# EAGLE library part HEADER_POS8_? (library con-molex-micro-fit-3_0)
Molex - Micro-Fit 3.0 Series connector, 3.00mm (0.118") pitch header, 8 positions.
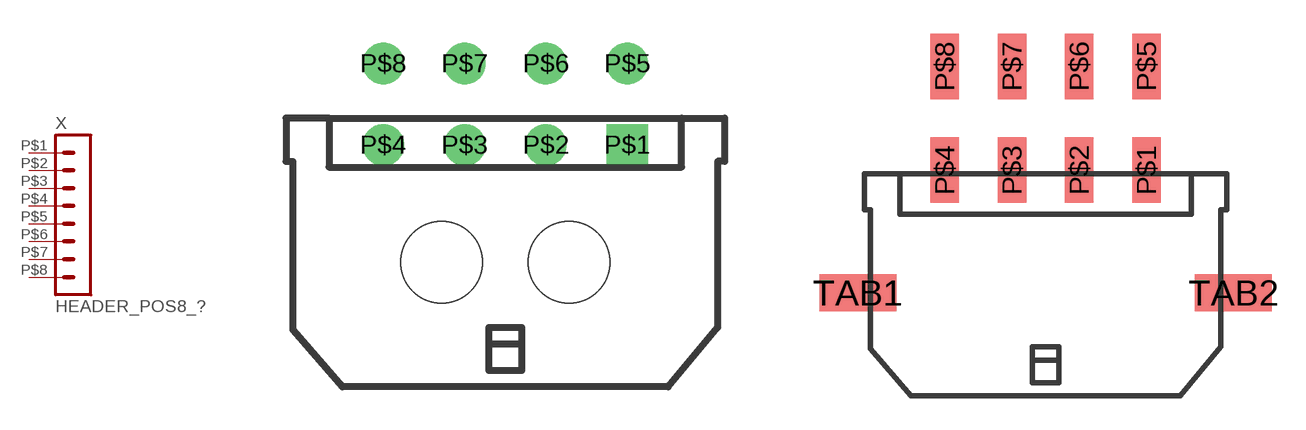
[diagram p2: symbol with the pads of 43045-0800; footprints 43045-0800, 43045-0809]

Designator prefix X

## HEADER_POS8_43045-0800  [43045-0800]
P$1  1  pas
P$2  2  pas
P$3  3  pas
P$4  4  pas
P$5  5  pas
P$6  6  pas
P$7  7  pas
P$8  8  pas

## HEADER_POS8_43045-0809  [43045-0809]
Pads as for 43045-0800

## HEADER_POS8_43045-0806  [43045-0806]
Pads as for 43045-0800

## HEADER_POS8_43045-0812  [43045-0812]
Pads as for 43045-0800

## HEADER_POS8_43045-0815  [43045-0815]
Pads as for 43045-0800

## HEADER_POS8_43045-0818  [43045-0818]
Pads as for 43045-0800

## HEADER_POS8_44914-0801  [44914-0801]
Pads as for 43045-0800

## HEADER_POS8_43650-0815  [43650-0815]
Pads as for 43045-0800

## HEADER_POS8_43650-0821  [43650-0821]
Pads as for 43045-0800

## HEADER_POS8_43650-0824  [43650-0824]
Pads as for 43045-0800

## HEADER_POS8_43650-0800  [43650-0800]
Pads as for 43045-0800

## HEADER_POS8_43650-0809  [43650-0809]
P$1  2  pas
P$2  1  pas
P$3  3  pas
P$4  4  pas
P$5  5  pas
P$6  6  pas
P$7  7  pas
P$8  8  pas

## HEADER_POS8_43650-0812  [43650-0812]
Pads as for 43045-0800

## HEADER_POS8_44769-0801  [44769-0801]
Pads as for 43045-0800

## HEADER_POS8_44432-0801  [44432-0801]
Pads as for 43045-0800

## HEADER_POS8_44428-0801  [44428-0801]
Pads as for 43045-0800

## HEADER_POS8_44764-0801  [44764-0801]
Pads as for 43045-0800

## Footprint 43045-0800 (pad centres in mm)
Molex Micro-Fit 3.0 - Header Shrouded, Thru hole, Right Angle; P/N: SD-43045-0800, SD-43045-0801, SD-43045-0802 http://www.molex.com/pdm_docs/sd/430450200_sd.pdf
drill 1.02 square: P$1 4.5,4.32
drill 1.02: P$2 1.5,4.32; P$3 -1.5,4.32; P$4 -4.5,4.32; P$5 4.5,7.32; P$6 1.5,7.32; P$7 -1.5,7.32; P$8 -4.5,7.32
hole 3 at 2.35,0
hole 3 at -2.35,0

## Footprint 43045-0809 (pad centres in mm)
Molex Micro-Fit 3.0 - Header Shrouded, Surface mount, Right Angle, Solderable tabs; P/N: SD-43045-0809, SD-43045-0810, SD-43045-0811 http://www.molex.com/pdm_docs/sd/430450209_sd.pdf
smd 1.27 x 2.92: P$1 4.5,5.47; P$2 1.5,5.47; P$3 -1.5,5.47; P$4 -4.5,5.47; P$5 4.5,10.1; P$6 1.5,10.1; P$7 -1.5,10.1; P$8 -4.5,10.1
smd 3.43 x 1.65: TAB1 -8.38,0; TAB2 8.38,0

## Footprint 43045-0806 (pad centres in mm)
Molex Micro-Fit 3.0 - Header Shrouded, Surface mount, Right Angle, Solderable Retention clips; P/N: SD-43045-0806, SD-43045-0807, SD-43045-0808 http://www.molex.com/pdm_docs/sd/430450206_sd.pdf
smd 1.27 x 2.92: P$1 4.5,5.47; P$2 1.5,5.47; P$3 -1.5,5.47; P$4 -4.5,5.47; P$5 4.5,10.1; P$6 1.5,10.1; P$7 -1.5,10.1; P$8 -4.5,10.1
hole 2.41 at -6.65,0
hole 2.41 at 6.65,0

## Footprint 43045-0812 (pad centres in mm)
Molex Micro-Fit 3.0 - Header Shrouded, Thru hole, Vertical, with Pegs; P/N: SD-43045-0812, SD-43045-0813, SD-43045-0814 http://www.molex.com/pdm_docs/sd/430450212_sd.pdf
drill 1.02 square: P$1 4.5,0
drill 1.02: P$2 1.5,0; P$3 -1.5,0; P$4 -4.5,0; P$5 4.5,3; P$6 1.5,3; P$7 -1.5,3; P$8 -4.5,3
hole 1.02 at 7.5,3.94
hole 1.02 at -7.5,3.94

## Footprint 43045-0815 (pad centres in mm)
Molex Micro-Fit 3.0 - Header Shrouded, Surface mount, Vertical, with Solderable Retention Clips; P/N: SD-43045-0815, SD-43045-0816, SD-43045-0817 http://www.molex.com/pdm_docs/sd/430450215_sd.pdf
smd 1.27 x 2.54: P$1 4.5,-4.7; P$2 1.5,-4.7; P$3 -1.5,-4.7; P$4 -4.5,-4.7; P$5 4.5,4.7; P$6 1.5,4.7; P$7 -1.5,4.7; P$8 -4.5,4.7
hole 2.41 at -6.65,0
hole 2.41 at 6.65,0

## Footprint 43045-0818 (pad centres in mm)
Molex Micro-Fit 3.0 - Header Shrouded, Surface mount, Vertical, with Solder Tabs; P/N: SD-43045-0818, SD-43045-0819, SD-43045-0820 http://www.molex.com/pdm_docs/sd/430450218_sd.pdf
smd 3.43 x 1.65: CLIP1 -8.38,0; CLIP2 8.38,0
smd 1.27 x 2.54: P$1 4.5,-4.7; P$2 1.5,-4.7; P$3 -1.5,-4.7; P$4 -4.5,-4.7; P$5 4.5,4.7; P$6 1.5,4.7; P$7 -1.5,4.7; P$8 -4.5,4.7

## Footprint 44914-0801 (pad centres in mm)
Molex Micro-Fit 3.0 - Header Shrouded, Thru hole, Vertical, Press-fit, with Pegs; P/N: SD-44914-0801, SD-44914-0802, SD-44914-0803 http://www.molex.com/pdm_docs/sd/449140201_sd.pdf
drill 1.09 square: P$1 4.5,0
drill 1.09: P$2 1.5,0; P$3 -1.5,0; P$4 -4.5,0; P$5 4.5,3; P$6 1.5,3; P$7 -1.5,3; P$8 -4.5,3
hole 1.02 at 7.5,3.94
hole 1.02 at -7.5,3.94

## Footprint 43650-0815 (pad centres in mm)
Molex Micro-Fit 3.0 - Header Shrouded, Thru hole, Vertical, with Pegs; P/N: SD-43650-0815, SD-43650-0816, SD-43650-0817 http://www.molex.com/pdm_docs/sd/436500215_sd.pdf
drill 1.02 square: P$1 10.5,0
drill 1.02: P$2 7.5,0; P$3 4.5,0; P$4 1.5,0; P$5 -1.5,0; P$6 -4.5,0; P$7 -7.5,0; P$8 -10.5,0
hole 1.27 at 13.5,-1.96
hole 1.27 at -13.5,-1.96

## Footprint 43650-0821 (pad centres in mm)
Molex Micro-Fit 3.0 - Header Shrouded, Thru hole, Vertical, with Solderable Retention Clips; P/N: SD-43650-0821, SD-43650-0822, SD-43650-0823 http://www.molex.com/pdm_docs/sd/436500221_sd.pdf
smd 1.27 x 2.54: P$1 10.5,3.43; P$2 7.5,3.43; P$3 4.5,3.43; P$4 1.5,3.43; P$5 -1.5,3.43; P$6 -4.5,3.43; P$7 -7.5,3.43; P$8 -10.5,3.43
hole 2.41 at 12.65,0
hole 2.41 at -12.65,0

## Footprint 43650-0824 (pad centres in mm)
Molex Micro-Fit 3.0 - Header Shrouded, Thru hole, Vertical, with Solder Tabs; P/N: SD-43650-0824, SD-43650-0825, SD-43650-0826 http://www.molex.com/pdm_docs/sd/436500224_sd.pdf
smd 1.27 x 2.54: P$1 10.5,3.43; P$2 7.5,3.43; P$3 4.5,3.43; P$4 1.5,3.43; P$5 -1.5,3.43; P$6 -4.5,3.43; P$7 -7.5,3.43; P$8 -10.5,3.43
smd 3.43 x 1.65: TAB1 14.39,0; TAB2 -14.39,0

## Footprint 43650-0800 (pad centres in mm)
Molex Micro-Fit 3.0 - Header Shrouded, Thru hole, Right Angle, with Pegs; P/N: SD-43650-0800, SD-43650-0801, SD-43650-0802 http://www.molex.com/pdm_docs/sd/436500200_sd.pdf
drill 1.02 square: P$1 10.5,4.32
drill 1.02: P$2 7.5,4.32; P$3 4.5,4.32; P$4 1.5,4.32; P$5 -1.5,4.32; P$6 -4.5,4.32; P$7 -7.5,4.32; P$8 -10.5,4.32
hole 3 at 8.35,0
hole 3 at -8.35,0

## Footprint 43650-0809 (pad centres in mm)
Molex Micro-Fit 3.0 - Header Shrouded, Thru hole, Right Angle, with Solderable Retention Clips; P/N: SD-43650-0809, SD-43650-0810, SD-43650-0811 http://www.molex.com/pdm_docs/sd/436500209_sd.pdf
smd 1.27 x 2.92: P$1 10.5,5.48; P$2 7.5,5.48; P$3 4.5,5.48; P$4 1.5,5.48; P$5 -1.5,5.48; P$6 -4.5,5.48; P$7 -7.5,5.48; P$8 -10.5,5.48
hole 2.41 at 12.65,0
hole 2.41 at -12.65,0

## Footprint 43650-0812 (pad centres in mm)
Molex Micro-Fit 3.0 - Header Shrouded, Surface mount, Right Angle, with Solderable tabs; P/N: SD-43650-0812, SD-43650-0813, SD-43650-0814 http://www.molex.com/pdm_docs/sd/436500212_sd.pdf
smd 1.27 x 2.92: P$1 10.5,5.48; P$2 7.5,5.48; P$3 4.5,5.48; P$4 1.5,5.48; P$5 -1.5,5.48; P$6 -4.5,5.48; P$7 -7.5,5.48; P$8 -10.5,5.48
smd 3.43 x 1.65: TAB1 14.38,0; TAB2 -14.38,0

## Footprint 44769-0801 (pad centres in mm)
Molex Micro-Fit 3.0 - Board-to-Board BMI (Blind Mate Interface), Receptacle Vertical, Thru hole; P/N: SD-44769-0801, SD-44769-0802, SD-44769-0803 http://www.molex.com/pdm_docs/sd/447690401_sd.pdf
drill 1.02 square: P$1 -4.5,0
drill 1.02: P$2 -1.5,0; P$3 1.5,0; P$4 4.5,0; P$5 -4.5,3; P$6 -1.5,3; P$7 1.5,3; P$8 4.5,3
hole 2.36 at 7.5,3
hole 2.36 at -7.5,3

## Footprint 44432-0801 (pad centres in mm)
Molex Micro-Fit 3.0 - Board-to-Board BMI (Blind Mate Interface), Header Vertical, Thru hole, with Pegs; P/N: SD-44432-0801, SD-44432-0802, SD-44432-0803 http://www.molex.com/pdm_docs/sd/444320401_sd.pdf
drill 1.02 square: P$1 4.5,-3
drill 1.02: P$2 1.5,-3; P$3 -1.5,-3; P$4 -4.5,-3; P$5 4.5,0; P$6 1.5,0; P$7 -1.5,0; P$8 -4.5,0
hole 1.57 at -9,1.45
hole 1.57 at 9,1.45

## Footprint 44428-0801 (pad centres in mm)
Molex Micro-Fit 3.0 - Board-to-Board BMI (Blind Mate Interface), Header Right Angle, Thru hole, with Pegs; P/N: SD-44428-0801, SD-44428-0802, SD-44428-0803 http://www.molex.com/pdm_docs/sd/444280401_sd.pdf
drill 1.02 square: P$1 4.5,0
drill 1.02: P$2 1.5,0; P$3 -1.5,0; P$4 -4.5,0; P$5 4.5,3; P$6 1.5,3; P$7 -1.5,3; P$8 -4.5,3
hole 3 at 2.34,-8.53
hole 3 at -2.34,-8.53

## Footprint 44764-0801 (pad centres in mm)
Molex Micro-Fit 3.0 - Board-to-Board BMI (Blind Mate Interface), Receptacle, Right Angle, Thru hole; P/N: SD-44764-0801, SD-44764-0802, SD-44764-0803 http://www.molex.com/pdm_docs/sd/447640401_sd.pdf
drill 1.02 square: P$1 -4.5,0
drill 1.02: P$2 -1.5,0; P$3 1.5,0; P$4 4.5,0; P$5 -4.5,3; P$6 -1.5,3; P$7 1.5,3; P$8 4.5,3
hole 2.36 at -3,-3.05
hole 2.36 at 3,-3.05